# Altium footprint library antenna.PcbLib: 1 footprints
Each footprint in its own frame and in the unit in brackets; x right, y up, seen from the top. Pads: shape width x height; smd on the part's side, far side on the other; paste and mask are expansions set on the pad; w line width, h text height; cw(c..) or ccw(c..) is an arc to the next point about the centre after c.
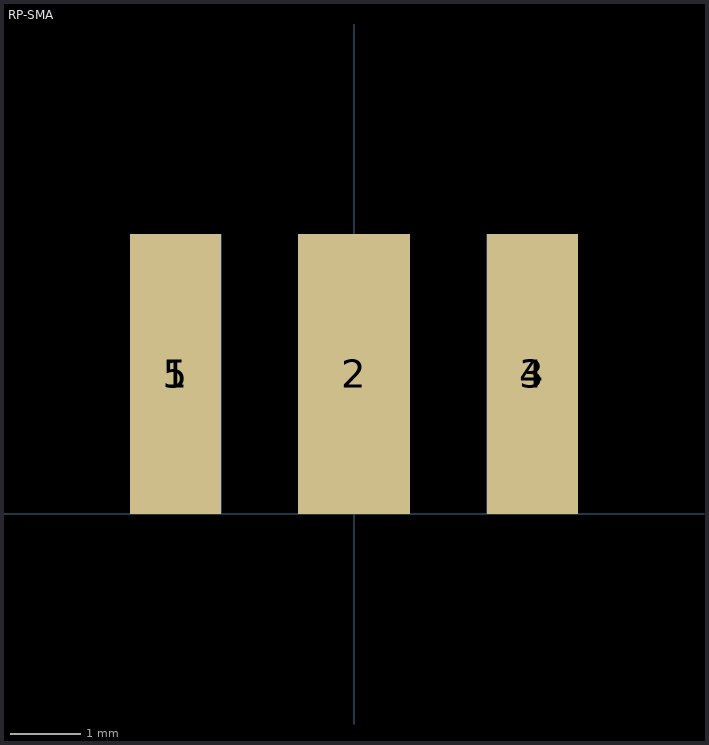
[diagram p0: the footprint, top view; thin cyan lines are the x and y axes]

## RP-SMA [mm]
pads (5):
  rect 1.3x4 smd: 1(-2.55,2) 3(2.55,2)
  rect 1.6x4 smd: 2(0,2)
  rect 1.3x4 smd far side: 4(2.55,2) 5(-2.55,2)